# Altium footprint library ST2378E.PcbLib: 3 footprints
Each footprint in its own frame and in the unit in brackets; x right, y up, seen from the top. Pads: shape width x height; smd on the part's side, far side on the other; paste and mask are expansions set on the pad; w line width, h text height; cw(c..) or ccw(c..) is an arc to the next point about the centre after c.
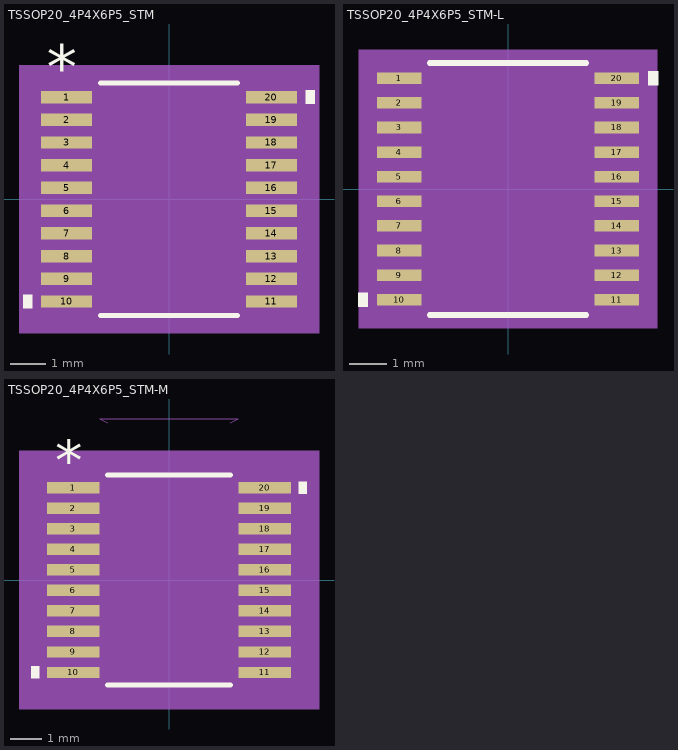
[diagram p0: the footprints below, top view; thin cyan lines are the x and y axes]

## TSSOP20_4P4X6P5_STM [mil]
pads (20):
  rect 57.5x14 smd paste+0 mask+0: 1(-115.25,115.16) 2(-115.25,89.57) 3(-115.25,63.98) 4(-115.25,38.39) 5(-115.25,12.8) 6(-115.25,-12.8) 7(-115.25,-38.39) 8(-115.25,-63.98) 9(-115.25,-89.57) 10(-115.25,-115.16) 11(115.25,-115.16) 12(115.25,-89.57) 13(115.25,-63.98) 14(115.25,-38.39) 15(115.25,-12.8) 16(115.25,12.8) 17(115.25,38.39) 18(115.25,63.98) 19(115.25,89.57) 20(115.25,115.16)
Top Overlay:
  region: -154,-107.66 -164,-107.66 -164,-122.66 -154,-122.66
  region: 154,122.66 164,122.66 164,107.66 154,107.66
  lines w6: -76.83,-131 76.83,-131 ; -76.83,131 76.83,131
  text "*" at -137.75,124.16 h50
Mechanical 5:
  region: 169,-151 -169,-151 -169,151 169,151
Mechanical 13:
  lines w0: -12,126 ccw(c0,126) 12,126
  lines w1: -130,-121.16 -130,-109.16 -86.5,-109.16 -86.5,-121.16 -130,-121.16 ; -130,-95.57 -130,-83.57 -86.5,-83.57 -86.5,-95.57 -130,-95.57 ; -130,-69.98 -130,-57.98 -86.5,-57.98 -86.5,-69.98 -130,-69.98 ; -130,-44.39 -130,-32.39 -86.5,-32.39 -86.5,-44.39 -130,-44.39 ; -130,-18.8 -130,-6.8 -86.5,-6.8 -86.5,-18.8 -130,-18.8 ; -130,6.8 -130,18.8 -86.5,18.8 -86.5,6.8 -130,6.8 ; -130,32.39 -130,44.39 -86.5,44.39 -86.5,32.39 -130,32.39 ; -130,57.98 -130,69.98 -86.5,69.98 -86.5,57.98 -130,57.98 ; -130,83.57 -130,95.57 -86.5,95.57 -86.5,83.57 -130,83.57 ; -130,109.16 -130,121.16 -86.5,121.16 -86.5,109.16 -130,109.16 ; -86.5,-126 86.5,-126 86.5,126 -86.5,126 -86.5,-126 ; 86.5,-121.16 86.5,-109.16 130,-109.16 130,-121.16 86.5,-121.16 ; 86.5,-95.57 86.5,-83.57 130,-83.57 130,-95.57 86.5,-95.57 ; 86.5,-69.98 86.5,-57.98 130,-57.98 130,-69.98 86.5,-69.98 ; 86.5,-44.39 86.5,-32.39 130,-32.39 130,-44.39 86.5,-44.39 ; 86.5,-18.8 86.5,-6.8 130,-6.8 130,-18.8 86.5,-18.8 ; 86.5,6.8 86.5,18.8 130,18.8 130,6.8 86.5,6.8 ; 86.5,32.39 86.5,44.39 130,44.39 130,32.39 86.5,32.39 ; 86.5,57.98 86.5,69.98 130,69.98 130,57.98 86.5,57.98 ; 86.5,83.57 86.5,95.57 130,95.57 130,83.57 86.5,83.57 ; 86.5,109.16 86.5,121.16 130,121.16 130,109.16 86.5,109.16
  text "*" at -84,73 h50
3D body: height 62.99, standoff 0, extent -130,-125 125,125.01

## TSSOP20_4P4X6P5_STM-L [mil]
pads (20):
  rect 46x12 smd paste+0 mask+0: 1(-113,115.16) 2(-113,89.57) 3(-113,63.98) 4(-113,38.39) 5(-113,12.8) 6(-113,-12.8) 7(-113,-38.39) 8(-113,-63.98) 9(-113,-89.57) 10(-113,-115.16) 11(113,-115.16) 12(113,-89.57) 13(113,-63.98) 14(113,-38.39) 15(113,-12.8) 16(113,12.8) 17(113,38.39) 18(113,63.98) 19(113,89.57) 20(113,115.16)
Top Overlay:
  region: -146,-107.66 -156,-107.66 -156,-122.66 -146,-122.66
  region: 146,122.66 156,122.66 156,107.66 146,107.66
  lines w6: -81.36,-131 81.36,-131 ; -81.36,131 81.36,131
Mechanical 5:
  region: 155,-145 -155,-145 -155,145 155,145
Mechanical 13:
  lines w0: -12,126 ccw(c0,126) 12,126
  lines w1: -130,-121.16 -130,-109.16 -86.5,-109.16 -86.5,-121.16 -130,-121.16 ; -130,-95.57 -130,-83.57 -86.5,-83.57 -86.5,-95.57 -130,-95.57 ; -130,-69.98 -130,-57.98 -86.5,-57.98 -86.5,-69.98 -130,-69.98 ; -130,-44.39 -130,-32.39 -86.5,-32.39 -86.5,-44.39 -130,-44.39 ; -130,-18.8 -130,-6.8 -86.5,-6.8 -86.5,-18.8 -130,-18.8 ; -130,6.8 -130,18.8 -86.5,18.8 -86.5,6.8 -130,6.8 ; -130,32.39 -130,44.39 -86.5,44.39 -86.5,32.39 -130,32.39 ; -130,57.98 -130,69.98 -86.5,69.98 -86.5,57.98 -130,57.98 ; -130,83.57 -130,95.57 -86.5,95.57 -86.5,83.57 -130,83.57 ; -130,109.16 -130,121.16 -86.5,121.16 -86.5,109.16 -130,109.16 ; -86.5,-126 86.5,-126 86.5,126 -86.5,126 -86.5,-126 ; 86.5,-121.16 86.5,-109.16 130,-109.16 130,-121.16 86.5,-121.16 ; 86.5,-95.57 86.5,-83.57 130,-83.57 130,-95.57 86.5,-95.57 ; 86.5,-69.98 86.5,-57.98 130,-57.98 130,-69.98 86.5,-69.98 ; 86.5,-44.39 86.5,-32.39 130,-32.39 130,-44.39 86.5,-44.39 ; 86.5,-18.8 86.5,-6.8 130,-6.8 130,-18.8 86.5,-18.8 ; 86.5,6.8 86.5,18.8 130,18.8 130,6.8 86.5,6.8 ; 86.5,32.39 86.5,44.39 130,44.39 130,32.39 86.5,32.39 ; 86.5,57.98 86.5,69.98 130,69.98 130,57.98 86.5,57.98 ; 86.5,83.57 86.5,95.57 130,95.57 130,83.57 86.5,83.57 ; 86.5,109.16 86.5,121.16 130,121.16 130,109.16 86.5,109.16
  text "*" at -84,73 h50
3D body: height 10, standoff 0, extent 0,0 10,10

## TSSOP20_4P4X6P5_STM-M [mil]
pads (20):
  rect 65.5x14 smd paste+0 mask+0: 1(-119.25,115.16) 2(-119.25,89.57) 3(-119.25,63.98) 4(-119.25,38.39) 5(-119.25,12.8) 6(-119.25,-12.8) 7(-119.25,-38.39) 8(-119.25,-63.98) 9(-119.25,-89.57) 10(-119.25,-115.16) 11(119.25,-115.16) 12(119.25,-89.57) 13(119.25,-63.98) 14(119.25,-38.39) 15(119.25,-12.8) 16(119.25,12.8) 17(119.25,38.39) 18(119.25,63.98) 19(119.25,89.57) 20(119.25,115.16)
Top Overlay:
  region: 162,122.66 172,122.66 172,107.66 162,107.66
  region: -162,-107.66 -172,-107.66 -172,-122.66 -162,-122.66
  lines w6: -76.83,-131 76.83,-131 ; -76.83,131 76.83,131
  text "*" at -141.75,124.16 h50
Mechanical 5:
  region: 187,-161 -187,-161 -187,161 187,161
Mechanical 7:
  lines w1: -76.5,196 -86.5,201 86.5,201 76.5,196
Mechanical 13:
  lines w0: -12,126 ccw(c0,126) 12,126
  lines w1: -130,-121.16 -86.5,-121.16 -86.5,-109.16 -130,-109.16 -130,-121.16 ; -130,-95.57 -86.5,-95.57 -86.5,-83.57 -130,-83.57 -130,-95.57 ; -130,-69.98 -86.5,-69.98 -86.5,-57.98 -130,-57.98 -130,-69.98 ; -130,-44.39 -86.5,-44.39 -86.5,-32.39 -130,-32.39 -130,-44.39 ; -130,-18.8 -86.5,-18.8 -86.5,-6.8 -130,-6.8 -130,-18.8 ; -130,6.8 -86.5,6.8 -86.5,18.8 -130,18.8 -130,6.8 ; -130,32.39 -86.5,32.39 -86.5,44.39 -130,44.39 -130,32.39 ; -130,57.98 -86.5,57.98 -86.5,69.98 -130,69.98 -130,57.98 ; -130,83.57 -86.5,83.57 -86.5,95.57 -130,95.57 -130,83.57 ; -130,109.16 -86.5,109.16 -86.5,121.16 -130,121.16 -130,109.16 ; -86.5,-126 -86.5,126 86.5,126 86.5,-126 -86.5,-126 ; 86.5,-121.16 130,-121.16 130,-109.16 86.5,-109.16 86.5,-121.16 ; 86.5,-95.57 130,-95.57 130,-83.57 86.5,-83.57 86.5,-95.57 ; 86.5,-69.98 130,-69.98 130,-57.98 86.5,-57.98 86.5,-69.98 ; 86.5,-44.39 130,-44.39 130,-32.39 86.5,-32.39 86.5,-44.39 ; 86.5,-18.8 130,-18.8 130,-6.8 86.5,-6.8 86.5,-18.8 ; 86.5,6.8 130,6.8 130,18.8 86.5,18.8 86.5,6.8 ; 86.5,32.39 130,32.39 130,44.39 86.5,44.39 86.5,32.39 ; 86.5,57.98 130,57.98 130,69.98 86.5,69.98 86.5,57.98 ; 86.5,83.57 130,83.57 130,95.57 86.5,95.57 86.5,83.57 ; 86.5,109.16 130,109.16 130,121.16 86.5,121.16 86.5,109.16
  text "*" at -84,73 h50
3D body: height 10, standoff 0, extent 0,0 10,10